# Altium footprint library Transformers.PcbLib: 7 footprints
Each footprint in its own frame and in the unit in brackets; x right, y up, seen from the top. Pads: shape width x height; smd on the part's side, far side on the other; paste and mask are expansions set on the pad; w line width, h text height; cw(c..) or ccw(c..) is an arc to the next point about the centre after c.
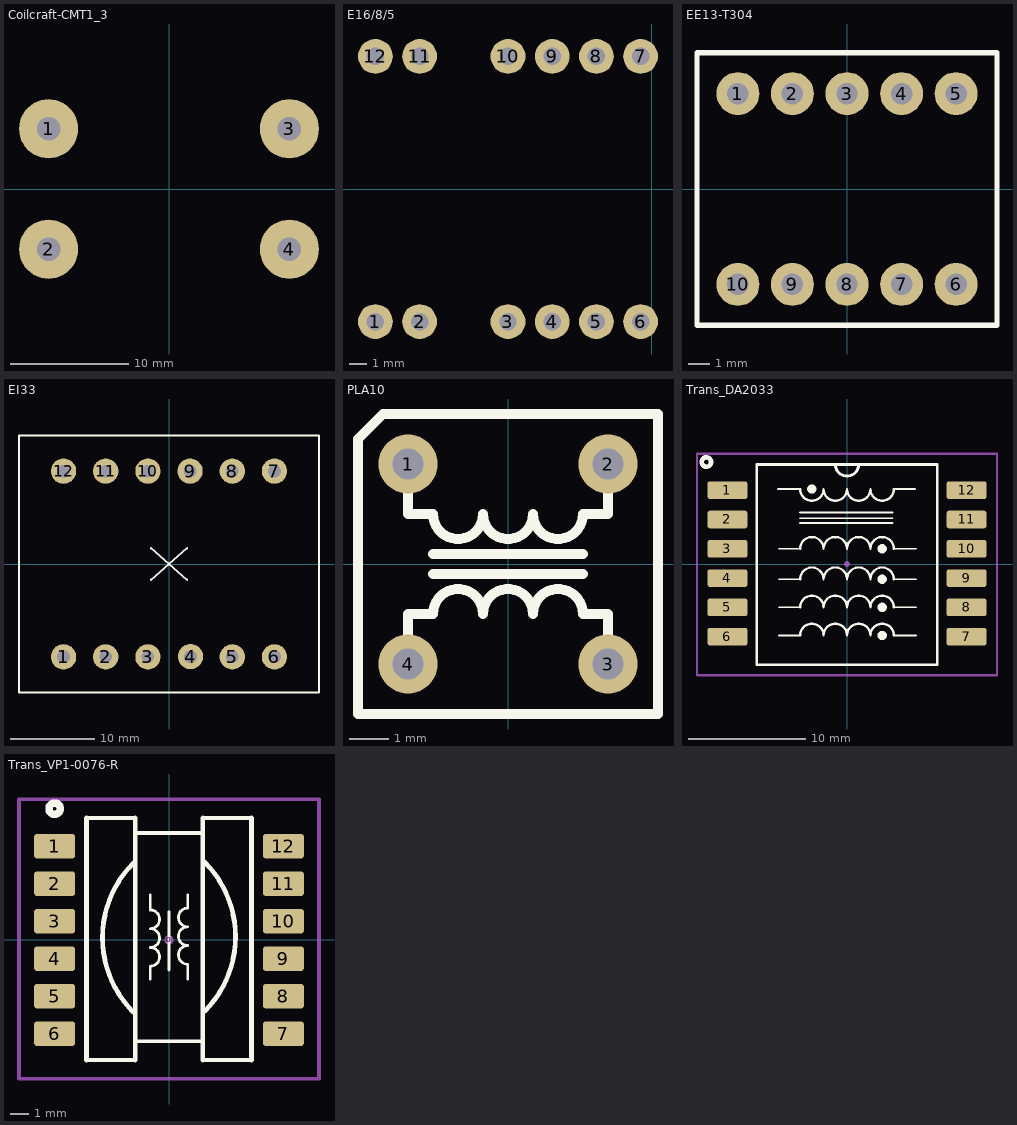
[diagram p0: the footprints below, top view; thin cyan lines are the x and y axes]

## Coilcraft-CMT1_3 [mm] "Coilcraft’s CMT toroid style common mode chokes"
pads (4):
  round 5 hole 2: 1(-10.16,5.08) 2(-10.16,-5.08) 3(10.16,5.08) 4(10.16,-5.08)
3D body "User Library-Coilcraft-CMT1_3.step": height 28.27, standoff -4.2, extent -12.8,-8.15 12.8,7.95

## E16/8/5 [mm]
pads (12):
  round 2 hole 1: 1(-15.875,-7.62) 2(-13.335,-7.62) 3(-8.255,-7.62) 4(-5.715,-7.62) 5(-3.175,-7.62) 6(-0.635,-7.62) 7(-0.635,7.62) 8(-3.175,7.62) 9(-5.715,7.62) 10(-8.255,7.62) 11(-13.335,7.62) 12(-15.875,7.62)
3D body "User Library-Choke_E16.STEP": height 15.3, standoff -1.2, extent -16.801,-8.525 0,8.526

## EE13-T304 [mm]
pads (10):
  round 2 hole 1: 1(-5.08,4.445) 2(-2.54,4.445) 3(0,4.445) 4(2.54,4.445) 5(5.08,4.445) 6(5.08,-4.445) 7(2.54,-4.445) 8(0,-4.445) 9(-2.54,-4.445) 10(-5.08,-4.445)
Top Overlay:
  lines w0.254: -6.985,-6.35 -6.985,6.35 6.985,6.35 6.985,-6.35 -6.985,-6.35
3D body "User Library-EE13-T304.step": height 11.88, standoff -4.67, extent -6.61,-6.2 6.61,6.2

## EI33 [mm]
pads (12):
  round 3 hole 1.5: 1(-12.5,-11) 2(-7.5,-11) 3(-2.5,-11) 4(2.551,-10.975) 5(7.5,-11) 6(12.5,-11) 7(12.5,11) 8(7.5,11) 9(2.5,11) 10(-2.5,11) 11(-7.5,11) 12(-12.5,11)
Top Overlay:
  lines w0.25: -2.119,-1.865 2.119,1.865 ; -2.119,1.865 2.119,-1.865 ; -17.78,-15.24 -17.78,15.24 17.78,15.24 17.78,-15.24 -17.78,-15.24
3D body "User Library-EI33.STEP": height 31.3, standoff -2.2, extent -16.8,-14.25 16.8,14.25

## PLA10 [mm]
pads (4):
  round 1.5 hole 0.8: 1(-2.54,2.54) 2(2.54,2.54) 3(2.54,-2.54) 4(-2.54,-2.54)
Top Overlay:
  lines w0.254: -2.54,-1.905 -2.54,-1.27 -1.905,-1.27 cw(c-1.27,-1.27) -0.635,-1.27 cw(c0,-1.27) 0.635,-1.27 cw(c1.27,-1.27) 1.905,-1.27 2.54,-1.27 2.54,-1.905 ; -2.54,1.905 -2.54,1.27 -1.905,1.27 ccw(c-1.27,1.27) -0.635,1.27 ccw(c0,1.27) 0.635,1.27 ccw(c1.27,1.27) 1.905,1.27 2.54,1.27 2.54,1.905 ; -1.905,-0.254 1.905,-0.254 ; -1.905,0.254 1.905,0.254 ; -3.81,-3.81 -3.81,3.175 -3.175,3.81 3.81,3.81 3.81,-3.81 -3.81,-3.81

## Trans_DA2033 [mm] "D-PAK/TO-252-AA; 3 Leads (1 Cropped); Body 10.3 (inc. leads) x 6.7 mm (LxW max)"
height 2.38
pads (13):
  round 0.5 on Mech15: 0(0,0)
  rrect25% 3.4x1.5 smd: 1(-10.2,6.3) 2(-10.2,3.8) 3(-10.2,1.3) 4(-10.2,-1.2) 5(-10.2,-3.7) 6(-10.2,-6.2) 7(10.2,-6.2) 8(10.2,-3.7) 9(10.2,-1.2) 10(10.2,1.3) 11(10.2,3.8) 12(10.2,6.3)
Top Overlay:
  circle w0.4: c-3,6.4 r0.2
  circle w0.4: c3,1.3 r0.2
  circle w0.4: c3,-1.3 r0.2
  circle w0.4: c3,-3.7 r0.2
  circle w0.4: c3,-6.1 r0.2
  circle w0.4: c-12,8.7 r0.4
  lines w0.15: -5.9,6.4 -4,6.4 ; -5.8,-6.1 -4,-6.1 ; -5.8,-3.7 -4,-3.7 ; -5.8,-1.3 -4,-1.3 ; -5.8,1.3 -4,1.3 ; -4,3.5 3.9,3.5 ; -4,3.9 3.9,3.9 ; -4,4.4 3.9,4.4 ; 4,-6.1 5.9,-6.1 ; 4,-3.7 5.9,-3.7 ; 4,-1.3 5.9,-1.3 ; 4,1.3 5.9,1.3 ; 4,6.4 5.8,6.4
  lines w0.2: -4,-6.1 cw(c-3,-6.1) -2,-6.1 cw(c-1,-6.1) 0,-6.1 cw(c1,-6.1) 2,-6.1 cw(c3,-6.1) 4,-6.1 ; -4,-3.7 cw(c-3,-3.7) -2,-3.7 cw(c-1,-3.7) 0,-3.7 cw(c1,-3.7) 2,-3.7 cw(c3,-3.7) 4,-3.7 ; -4,-1.3 cw(c-3,-1.3) -2,-1.3 cw(c-1,-1.3) 0,-1.3 cw(c1,-1.3) 2,-1.3 cw(c3,-1.3) 4,-1.3 ; -4,1.3 cw(c-3,1.3) -2,1.3 cw(c-1,1.3) 0,1.3 cw(c1,1.3) 2,1.3 cw(c3,1.3) 4,1.3 ; -4,6.4 ccw(c-3,6.4) -2,6.4 ccw(c-1,6.4) 0,6.4 ccw(c1,6.4) 2,6.4 ccw(c3,6.4) 4,6.4
  lines w0.25: -1,8.5 ccw(c0,8.5) 1,8.5 ; -7.7,-8.6 7.7,-8.6 7.7,8.5 -7.7,8.5 -7.7,-8.6
Mechanical 15:
  lines w0.2: -12.8,-9.5 -12.8,9.4 12.8,9.4 12.8,-9.5 -12.8,-9.5
3D body "DA2032-ALD.stp": height 8.89, standoff 0, extent -10.985,-8.6 10.985,8.6

## Trans_VP1-0076-R [mm] "D-PAK/TO-252-AA; 3 Leads (1 Cropped); Body 10.3 (inc. leads) x 6.7 mm (LxW max)"
height 2.38
pads (13):
  round 0.5 on Mech15: 0(0,0)
  rrect25% 2.2x1.3 smd: 1(-6.1,5) 2(-6.1,3) 3(-6.1,1) 4(-6.1,-1) 5(-6.1,-3) 6(-6.1,-5) 7(6.1,-5) 8(6.1,-3) 9(6.1,-1) 10(6.1,1) 11(6.1,3) 12(6.1,5)
Top Overlay:
  circle w0.4: c-6.1,7 r0.3
  lines w0.15: -1,-2.1 -1,-1.4 ccw(c-1,-0.9) -1,-0.4 ccw(c-1,0.1) -1,0.6 ccw(c-1,1.1) -1,1.6 -1,2.4 ; 0,-1.6 0,1.5 ; 1,-2.1 1,-1.3 cw(c1,-0.8) 1,-0.3 cw(c1,0.2) 1,0.7 cw(c1,1.2) 1,1.7 1,2.4
  lines w0.2: -4.4,-6.4 -1.8,-6.4 ; -4.4,6.5 -1.8,6.5 ; -1.8,-5.4 1.8,-5.4 ; -1.7,5.7 1.8,5.7 ; 1.8,-6.4 4.4,-6.4 ; 1.8,6.5 4.4,6.5
  lines w0.25: -4.4,-6.4 -4.4,6.5 ; -1.8,-6.4 -1.8,6.5 ; 1.8,-6.4 1.8,6.5 ; 4.4,-6.4 4.4,6.5
  lines w0.254: -1.9,-3.85 cw(c2.075,0.125) -1.9,4.1 ; 1.9,-3.8 ccw(c-2.075,0.175) 1.9,4.15
Mechanical 15:
  lines w0.2: -8,-7.4 -8,7.5 8,7.5 8,-7.4 -8,-7.4
3D body "VP1-0190.STEP": height 6.1, standoff -0.1, extent -6.5,-6.3 6.5,6.6